# Altium integrated library ESP12_Integrated_Library.IntLib: 17 symbols
Pins are listed as number, name and electrical type; pins without a type are passive.

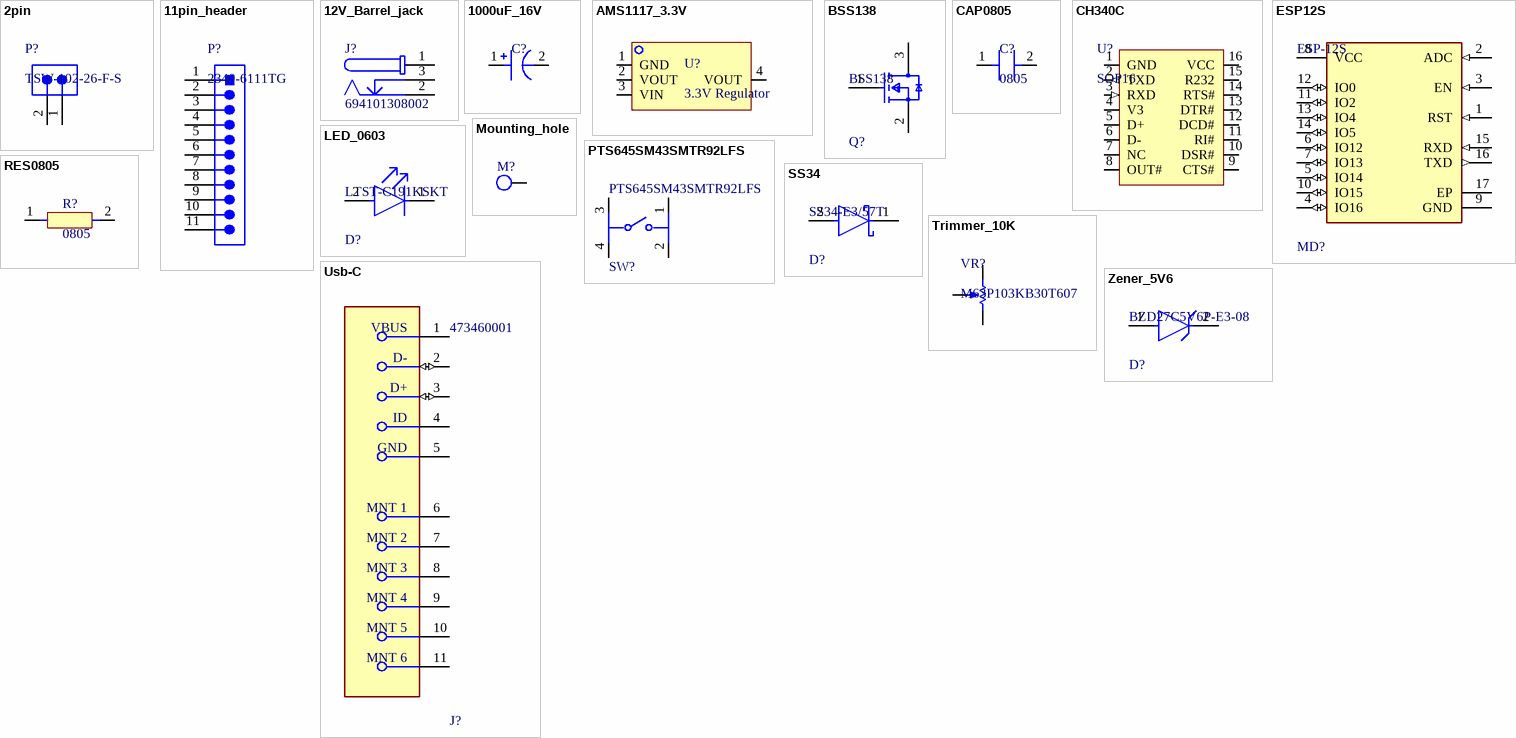
[diagram p0: symbols 2pin to Zener_5V6]

## 2pin
designator P?, comment TSW-102-26-F-S
0.025" SQ Post Header, Through-hole, Vertical, -55 to 125 degC, 2.54 mm Pitch, 2-Pin, Male, RoHS; Manufacturer: Samtec; Pitch: 2.54 mm; PackageVersion: DM, 8/1988; ComponentLink2Description: Datasheet; PackageReference: TSW-102-26-XX-S; ComponentLink3URL: http://www.samtec.com/documents/webfiles/cpdf/TSW-XXX-XX-XXX-X-XX-XXX-MKT.pdf; ComponentLink2URL: http://www.samtec.com/documents/webfiles/pdf/TSW_TH.PDF; ComponentLink1Description: Manufacturer URL; DatasheetVersion: F-214; RoHS: True; ComponentLink3Description: Package Specification; PartNumber: TSW-102-26-F-S; Temperature Range: -55 to 125 degC; Orientation: Vertical; ComponentLink1URL: http://www.samtec.com; PackageDescription: .025[0.64] SQ. Post Terminal Strip Assembly; Mounting Technology: Through-hole
footprint SMTC-TSW-102-26-XX-S (.025 SQ Post Terminal Strip Assembly, 1x2 Pins, Vertical, 2.54mm Pitch, Male)
pins: 1, 2

## 11pin_header
designator P?, comment 2340-6111TG
Male Header, Pitch 2.54 mm, 1 x 11 Position, Height 8.636 mm, Tail Length 3.05 mm, -55 to 105 degC, RoHS, Bulk; Manufacturer: 3M; Max Current Rating: 3A; Rows: 1; Max Operating Temperature: 105°C; RoHS Compliant: True; Manufacturer URL: http://www.3m.com/; Package Reference: 2340-6111TG; Package Quantity: 200; Min Operating Temperature: -55°C; Package Description: Male Header, Pitch 2.54 mm, 1 x 40 Position, Height 8.636 mm, Tail Length 3.05 mm; Gender: Male; Datasheet URL: https://datasheet.ciiva.com/5161/ts0766-242217-5161112.pdf; Packaging: Bulk; Lead Pitch: 0.1inch; Mounting Technology: TH; Case/Package: 2340-6111TG; Connector Type: Header; Datasheet Version: Aug-08; Pins: 40; Current Rating: 3A; Contact Finish: Gold; Contact Plating: Gold; Colour: Black; Contact Material: Copper
footprint 3M-2340-6111TG_V (THD, 40-Leads, Body 101.6x2.54mm, Pitch 2.54mm)
pins: 1, 2, 3, 4, 5, 6, 7, 8, 9, 10, 11

## 12V_Barrel_jack
designator J?, comment 694101308002
DC Power Jack Connector Low Profile WR-DC, Male, Right Angled, THT, 2 A, 12 V; Shielding: Unshielded; Operating Supply Voltage: 12V; Insulation Resistance: 100MΩ; Current Rating: 2A; Connector Type: Power; Packaging: Bulk; RoHS: Compliant; Termination: Through Hole; Voltage Rating (DC): 12V; Mount: Through Hole; Max Operating Temperature: 85°C; Min Operating Temperature: -20°C; REACH SVHC: Unknown; Housing Material: Polyamide; Color: Black; Contact Plating: Tin; Voltage Rating: 12V; Flammability Rating: UL94 V-0; Contact Gender: Male; Gender: Male
footprint 694101308002 (DC Power Jack THT Right Angled Low Profile(2.8))
pins: 1, 2, 3

## 1000uF_16V
designator C?
Radial Can - SMD ALUMINUM ELECTROLYTIC CAPACITOR UCL 16V 1000muF ±20% 0.394Dia 10.00mm; Manufacturer: Nichicon; Manufacturer Part Number: UCL1C102MNL1GS; Value: 1mF; Dielectric Material: Aluminium; Dissipation Factor: 0.16%; Impedance: 60mΩ; Leakage Current: 160µA; Life (Hours): 2000hours; Polarity: Polar; Ripple Current: 595mA; Ripple Current (AC): 1.19A; Supplier: DigiKey; Supplier Part Number: 493-3930-1-ND; RoHS: Compliant; Category: Aluminum Electrolytic Capacitors; Stock: 1147; Pricing: 1=1.26, 10=0.712, 50=0.5936, 100=0.5435, 400=0.45893, 800=0.38558, 1200=0.37583, 2000=0.37368, 2800=0.36409, 4000=0.36285, 4800=0.36174, 9600=0.35058, 10000=0.34963 (USD); Case/Package: Radial; China RoHS: Compliant; Contact Plating: Tin; Diameter: 10mm; Height: 13.5mm; Height - Seated (Max): 13.4874mm; Length: 10.3mm; Lifecycle Status: Production; Max Operating Temperature: 105°C; Min Operating Temperature: -55°C; Mounting Technology: Surface Mount; Pins: 2; Number of Terminals: 2; Packaging: Cut Tape; REACH SVHC: No; Schedule B: 8532220020, 8532220020|8532220020|8532220020|8532220020|8532220020; Termination: SMD/SMT; Tolerance: 20%; Voltage Rating: 16V; Voltage Rating (DC): 16V; Width: 10.3mm; ComponentLink1URL: https://datasheet.octopart.com:443/UCL1C102MNL1GS-Nichicon-datasheet-169250456.pdf?src-supplier=Future+Electronics; ComponentLink1Description: https://datasheet.octopart.com:443/UCL1C102MNL1GS-Nichicon-datasheet-169250456.pdf?src-supplier=Future+Electronics; ComponentLink2URL: https://datasheet.octopart.com:443/UCL1C102MNL1GS-Nichicon-datasheet-148801804.pdf?src-supplier=Future+Electronics; ComponentLink2Description: https://datasheet.octopart.com:443/UCL1C102MNL1GS-Nichicon-datasheet-148801804.pdf?src-supplier=Future+Electronics; ComponentLink3URL: https://datasheet.octopart.com:443/UCL1C102MNL1GS-Nichicon-datasheet-12514670.pdf?src-supplier=Upverter; ComponentLink3Description: https://datasheet.octopart.com:443/UCL1C102MNL1GS-Nichicon-datasheet-12514670.pdf?src-supplier=Upverter; ComponentLink4URL: https://datasheet.octopart.com:443/UCL1C102MNL1GS-Nichicon-datasheet-62297386.pdf?src-supplier=HQonline; ComponentLink4Description: https://datasheet.octopart.com:443/UCL1C102MNL1GS-Nichicon-datasheet-62297386.pdf?src-supplier=HQonline; ComponentLink5URL: https://datasheet.octopart.com:443/UCL1C102MNL1GS-Nichicon-datasheet-41194108.pdf?src-supplier=Newark; ComponentLink5Description: https://datasheet.octopart.com:443/UCL1C102MNL1GS-Nichicon-datasheet-41194108.pdf?src-supplier=Newark; ComponentLink6URL: https://datasheet.octopart.com:443/UCL1C102MNL1GS-Nichicon-datasheet-11034125.pdf?src-supplier=Farnell; ComponentLink6Description: https://datasheet.octopart.com:443/UCL1C102MNL1GS-Nichicon-datasheet-11034125.pdf?src-supplier=Farnell; ComponentLink7URL: https://datasheet.octopart.com:443/UCL1C102MNL1GS-Nichicon-datasheet-141265412.pdf?src-supplier=Nichicon+SCT; ComponentLink7Description: https://datasheet.octopart.com:443/UCL1C102MNL1GS-Nichicon-datasheet-141265412.pdf?src-supplier=Nichicon+SCT; ComponentLink8URL: https://datasheet.octopart.com:443/UCL1C102MNL1GS-Nichicon-datasheet-8857388.pdf?src-supplier=element14; ComponentLink8Description: https://datasheet.octopart.com:443/UCL1C102MNL1GS-Nichicon-datasheet-8857388.pdf?src-supplier=element14
footprint NIC-UCL-10x13.5-2_V (SMD, 2-Leads,Body 10.3x10.3mm, Height 14.3mm)
pins: 1, 2

## AMS1117_3.3V
designator U?, comment 3.3V Regulator
Linear Voltage Regulator IC Positive Fixed 1 Output 1A SOT-223-3L
footprint AMS1117_3.3V (SOT223, 4-Leads, Body 6.50x7.00mm (avg), Pitch 2.30mm, IPC Medium Density)
pins: 1 GND, 2 VOUT, 3 VIN, 4 VOUT

## BSS138
designator Q?
MOSFET N-CH 50V 220MA SOT-23; Turn-Off Delay Time: 20ns; Element Configuration: Single; Rds On Max: 3.5R; Gate to Source Voltage (Vgs): 20V; Threshold Voltage: 1.3V; Number of Elements: 1; Power Dissipation: 360mW; Rise Time: 9ns; Turn-On Delay Time: 2.5ns; Input Capacitance: 27pF; On-State Resistance: 6R; Lead Free: Lead Free; Length: 2.92mm; Width: 1.3mm; Drain to Source Breakdown Voltage: 50V; Min Operating Temperature: -55°C; REACH SVHC: No SVHC; Packaging: Tape and Reel; Radiation Hardening: No; Height: 0.93mm; Drain to Source Voltage (Vdss): 50V; Current Rating: 220mA; Voltage Rating (DC): 50V; Weight: 0.03g; Continuous Drain Current (ID): 220mA; Number of Pins: 3; Nominal Vgs: 1.3V; Max Power Dissipation: 360mW; Fall Time: 9ns; Drain to Source Resistance: 3.5R; Contact Plating: Tin; Case/Package: SOT-23; Package Quantity: 1; Dual Supply Voltage: 50V; Mount: Surface Mount; Termination: SMD/SMT; Max Operating Temperature: 150°C
footprint FP-318-08-IPC_A
pins: 1 G, 2 S, 3 D

## CAP0805
designator C?, comment 0805
footprint CAP0805
pins: 1, 2

## CH340C
designator U?, comment SOP16
footprint CH340
pins: 1 GND, 2 TXD (out), 3 RXD (in), 4 V3, 5 D+, 6 D-, 7 NC, 8 OUT#, 9 CTS#, 10 DSR#, 11 RI#, 12 DCD#, 13 DTR#, 14 RTS#, 15 R232, 16 VCC

## ESP12S
designator MD?, comment ESP-12S
RX TXRX MOD WIFI PCB TRACE SMD; Interface: I2C; Sensitivity: -90dBm; Data Rate: 54Mbps; Frequency: 2.484GHz; Series: -
footprint FP-ESP-12S-MFG
pins: 1 RST (in), 2 ADC (in), 3 EN (in), 4 IO16 (io), 5 IO14 (io), 6 IO12 (io), 7 IO13 (io), 8 VCC (power), 9 GND (power), 10 IO15 (io), 11 IO2 (io), 12 IO0 (io), 13 IO4 (io), 14 IO5 (io), 15 RXD (in), 16 TXD (out), 17 EP (power)

## LED_0603
designator D?, comment LTST-C191KSKT
LED YELLOW CLEAR SMD; Dominant Wavelength: 597nm; Power Rating: 75mW; Number of LEDs: 1; Lens Style: Diffused; Forward Current: 30mA; Test Current: 20mA; Forward Voltage: 2.4V; Wavelength: 588nm; Viewing Angle: 130°; Lens Color: Colorless; Reverse Voltage: 5V; Luminous Intensity: 180mcd; Case Code (Imperial): 0603; Width: 0.8mm; Power Dissipation: 75mW; Length: 1.6mm; Illumination Color: Yellow; Number of Pins: 2; Case Code (Metric): 1608; Mount: Surface Mount; Number of Elements: 1; Height: 0.55mm; Lens Transparency: Clear; Depth: 0.8mm; Min Operating Temperature: -55°C; Case/Package: 0603; Radiation Hardening: No; Max Operating Temperature: 85°C; Package Quantity: 1; Packaging: Tape and Reel; Lead Free: Lead Free; Color: Yellow
footprint LED_0603
pins: 1 C, 2 A

## Mounting_hole
designator M?  (value not drawn)
footprint Mounting Hole
pins: 3

## PTS645SM43SMTR92LFS
designator SW?
SWITCH TACTILE SPST-NO 0.05A 12V; Contact Resistance: 100mR; Throw Configuration: SPST; Illumination Type: Non-Illuminated; Mechanical Life: 100000Cycles; Current Rating: 50mA; Switch Function: Off-Mom; Actuator Length: 0.85mm; Actuator Material: Nylon; Actuator Type: Standard; Operating Force: 160gf; Min Operating Temperature: -20°C; REACH SVHC: No SVHC; Termination: Gull Wing; Case/Package: SMD/SMT; Packaging: Tape and Reel; Mount: Surface Mount; Voltage Rating (DC): 12V; Orientation: Straight; Lead Free: Lead Free; Contact Material: Silver; Color: Black; Max Current Rating: 50mA; Contact Plating: Silver; Depth: 9mm; Package Quantity: 1; Max Voltage Rating (DC): 12V; Length: 6mm; Max Operating Temperature: 60°C
footprint FP-PTS645SM43SMTR92LFS-MFG
pins: 1, 2, 3, 4

## RES0805
designator R?, comment 0805
footprint RES0805
pins: 1, 2

## SS34
designator D?, comment SS34-E3/57T
DIODE SCHOTTKY 40V 3A DO214AB; Manufacturer: Vishay; Max Junction Temp: +150°C; Peak Reverse Current: 0.5mA; Max Surge Forward Current: 100A; Standoff Height: 0mm; ComponentLink2Description: Datasheet; Device Class L3: Schottky Diodes; Height: 2.62mm; Max Repetitive Reverse Voltage: 40V; Lead Free: Yes; Package: 95402; Temperature Range High: +150°C; ComponentLink2URL: http://www.vishay.com/docs/88751/ss32.pdf; Temperature: -55°C to +150°C; Footprint Url: http://www.vishay.com/docs/95402/smc.pdf; Automotive: No; Forward Current: 3A; Category: Diode; Manufacturer Part Number: SS34-E3/57T; RoHS: TRUE; Device Class L2: Diodes; Mouser Description: Schottky Diodes & Rectifiers 3.0 Amp 40 Volt; Octopart: https://octopart.com/ss34-e3%2F57t-vishay-39552907; Temperature Range Low: -55°C; Device Class L1: Discrete Semiconductors; Digikey Description: DIODE SCHOTTKY 40V 3A DO214AB
footprint FP-95402-MFG
pins: 1 C, 2 A

## Trimmer_10K
designator VR?, comment M63P103KB30T607
Single-Turn Cermet Trimmer, 10 KOhm, -55 to 125 degC, 3-Pin THD, RoHS, Bulk; Manufacturer: Vishay Semiconductor; Mounting Technology: Through Hole; DatasheetVersion: 09/2015; ComponentLink2Description: Datasheet; ComponentLink1Description: Manufacturer URL; ComponentLink1URL: http://www.vishay.com/; ComponentLink2URL: http://120.52.73.14/www.mouser.com/ds/2/427/63-239923.pdf; PackageDescription: 3-Pin Through Hole Device, Body 9.52 x 9.52 mm, Pitch 2.54 mm; PackageReference: M63P103KB30T607
footprint VISH-M63P103KB30T607 (THD, 3-Leads, Body 9.52x9.52mm, Pitch 2.54mm)
pins: 1 CCW, 2 S, 3 CW

## Usb-C
designator J?, comment 473460001
CONN RCPT USB2.0 MICRO B SMD R/A; Manufacturer: Molex; Conn Orientation: Right Angle; Is Female: yes; Shielding: true; Pitch: 0.65mm; Number Of Contacts: 5; Voltage Rating: 30V; Current Rating: 1.8A; Device Class L2: USB Connectors; Digikey Description: CONN RCPT USB2.0 MICRO B SMD R/A; Height: 2.945mm; RoHS: TRUE; ComponentLink2Description: Datasheet; Octopart: https://octopart.com/47346-0001-molex-7164928; Automotive: No; Package: 0; Category: Conn; Device Class L1: Connectors; Usb Standard: USB 2.0; Temperature: -30°C to +85°C; Temperature Range Low: -30°C; Footprint Url: https://www.molex.com/pdm_docs/sd/473460001_sd.pdf; ComponentLink2URL: https://www.molex.com/webdocs/datasheets/pdf/en-us/0473460001_IO_CONNECTORS.pdf; Lead Free: Yes; Manufacturer Part Number: 473460001; Contact Material: Gold,Nickel; Temperature Range High: +85°C; Device Class L3: unset
footprint FP-473460001-MFG
pins: 1 VBUS (power), 2 D- (io), 3 D+ (io), 4 ID, 5 GND (power), 6 MNT 1, 7 MNT 2, 8 MNT 3, 9 MNT 4, 10 MNT 5, 11 MNT 6

## Zener_5V6
designator D?, comment BZD27C5V6P-E3-08
DIODE ZENER 5.6V 800MW DO219AB; Manufacturer: Vishay; Max Reverse Leakage Current: 10uA; Max Junction Temp: +175°C; Zener Impedance: 2Ω; Reverse Voltage: 2V; Forward Current: 0.2A; Max Zener Voltage: 6V; Standoff Height: 0mm; Automotive Grade: NA; Digikey Description: DIODE ZENER 5.6V 800MW DO219AB; Package: S8-V-3915.01-001; RoHS: TRUE; Octopart: https://octopart.com/bzd27c5v6p-e3-08-vishay-30317385; Nom Zener Voltage: 5.6V; Temperature Range Low: -65°C; ComponentLink2Description: Datasheet; ComponentLink2URL: http://www.vishay.com/docs/85153/bzd27series.pdf; Lead Free: Yes; Power Dissipation: 800mW; Manufacturer Part Number: BZD27C5V6P-E3-08; Category: Diode; Height: 1.08mm; Mouser Description: Diode Zener Single 5.6V 800mW 2-Pin DO-219AB T/R; Temperature: -65°C to +175°C; Device Class L2: Diodes; Device Class L3: Zener Diodes; Temperature Range High: +175°C; Automotive: No; Device Class L1: Discrete Semiconductors
footprint FP-S8-V-3915_01-001-MFG
pins: 1 A, 2 C